# Altium footprint library Jellyfih.PcbLib: 27 footprints (part 1 of 2)
Each footprint in its own frame and in the unit in brackets; x right, y up, seen from the top. Pads: shape width x height; smd on the part's side, far side on the other; paste and mask are expansions set on the pad; w line width, h text height; cw(c..) or ccw(c..) is an arc to the next point about the centre after c.
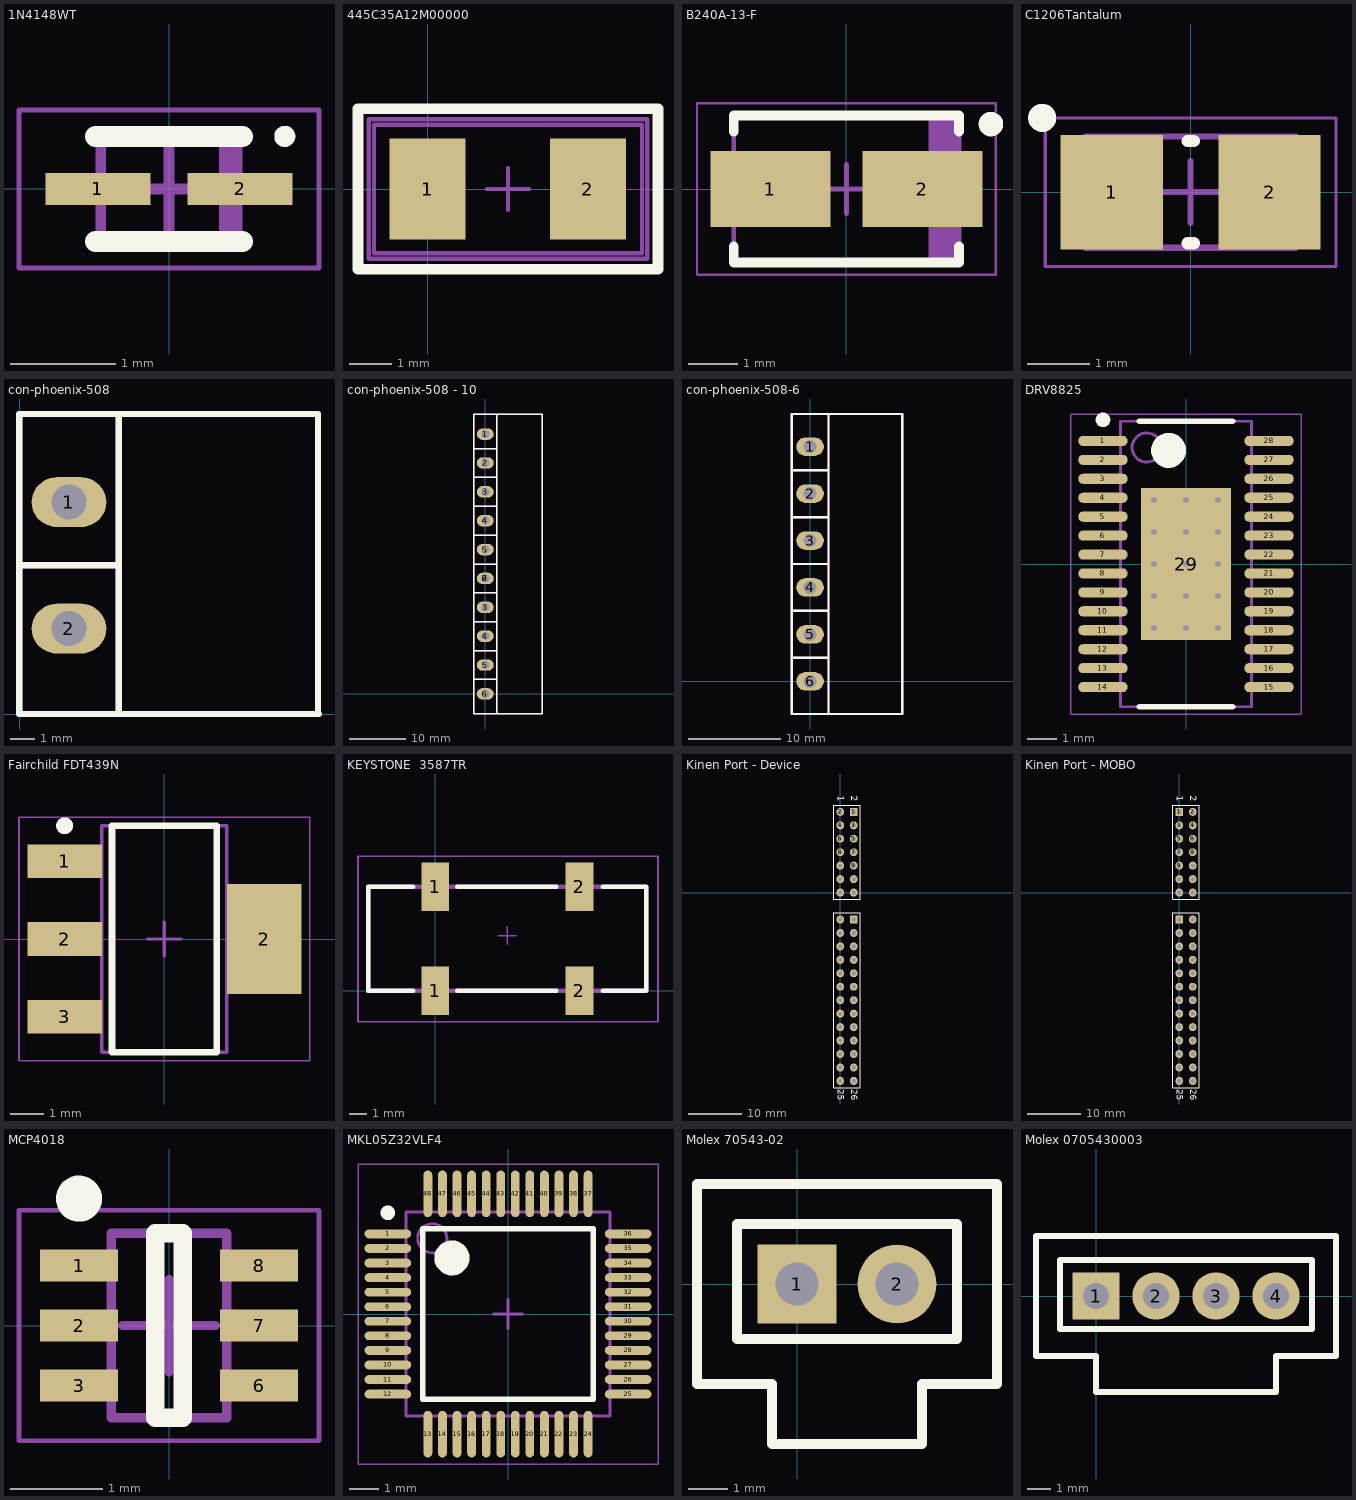
[diagram p0: the footprints below, top view; thin cyan lines are the x and y axes]

## 1N4148WT [mm] "Molded Diode, 2-Leads, Body 1.20x0.80mm, IPC Medium Density"
height 0.7
pads (2):
  rect 1x0.3 smd: 1(-0.675,0) 2(0.675,0)
Top Overlay:
  circle w0.1: c1.1,0.5 r0.05
  lines w0.2: -0.7,-0.5 0.7,-0.5 ; -0.7,0.5 0.7,0.5
Mechanical 13:
  rectangle: 0.475,-0.45 0.65,0.45
  lines w0.1: -0.65,-0.45 0.65,-0.45 0.65,0.45 -0.65,0.45 -0.65,-0.45
Mechanical 15:
  lines w0.05: -1.425,-0.75 1.425,-0.75 1.425,0.75 -1.425,0.75 -1.425,-0.75
  lines w0.1: -0.45,0 0.45,0 ; 0,-0.45 0,0.45
3D body: height 0.7, standoff 0, extent -0.65,-0.45 0.65,0.45

## 445C35A12M00000 [mm] "Crystal Oscillator"
height 1.35
pads (2):
  rect 1.8x2.4 smd: 1(0,0) 2(3.8,0)
Top Overlay:
  lines w0.254: -1.651,-1.905 5.461,-1.905 5.461,1.905 -1.651,1.905 -1.651,-1.905
Mechanical 13:
  lines w0.1: -1.27,-1.524 -1.27,1.524 5.08,1.524 5.08,-1.524 -1.27,-1.524
Mechanical 15:
  lines w0.1: 1.405,0 2.405,0 ; 1.905,-0.5 1.905,0.5 ; -1.397,-1.651 5.207,-1.651 5.207,1.651 -1.397,1.651 -1.397,-1.651
3D body: height 1, standoff 0, extent -1.27,-1.524 5.08,1.524

## B240A-13-F [mm] "Molded Diode, 2-Leads, Body 4.30x2.60mm, IPC Medium Density"
height 2.3
pads (2):
  rect 2.45x1.55 smd: 1(-1.55,0) 2(1.55,0)
Top Overlay:
  circle w0.25: c2.95,1.325 r0.125
  lines w0.2: -2.3,-1.175 -2.3,-1.5 2.3,-1.5 2.3,-1.175 ; -2.3,1.175 -2.3,1.5 2.3,1.5 2.3,1.175
Mechanical 13:
  rectangle: 1.681,-1.46 2.3,1.46
  lines w0.1: -2.3,-1.46 -2.3,1.46 2.3,1.46 2.3,-1.46 -2.3,-1.46
Mechanical 15:
  lines w0.05: -3.05,-1.75 -3.05,1.75 3.05,1.75 3.05,-1.75 -3.05,-1.75
  lines w0.1: -0.5,0 0.5,0 ; 0,-0.5 0,0.5
3D body: height 2.3, standoff 0, extent -2.3,-1.46 2.3,1.46

## C1206Tantalum [mm] "Chip Capacitor, 2-Leads, Body 3.20x1.60mm, IPC Medium Density"
height 1.8
pads (2):
  rect 1.65x1.85 smd: 1(-1.275,0) 2(1.275,0)
Top Overlay:
  circle w0.254: c-2.4,1.2 r0.1
  lines w0.2: -0.05,-0.825 0.05,-0.825 ; -0.05,0.825 0.05,0.825
Mechanical 13:
  lines w0.1: -1.7,-0.9 -1.7,0.9 1.7,0.9 1.7,-0.9 -1.7,-0.9
Mechanical 15:
  lines w0.05: -2.35,-1.2 -2.35,1.2 2.35,1.2 2.35,-1.2 -2.35,-1.2
  lines w0.1: -0.5,0 0.5,0 ; 0,-0.5 0,0.5
3D body: height 1.8, standoff 0, extent -0.85,-0.9 0.85,0.9
3D body: height 1.8, standoff 0, extent -1.7,-0.9 -0.85,0.9
3D body: height 1.8, standoff 0, extent 0.85,-0.9 1.7,0.9

## con-phoenix-508 [mm] "con-phoenix-508"
pads (2):
  oval 3x2 hole 1.4: 1(1.968,8.509) 2(1.968,3.429)
Top Overlay:
  lines w0.254: -0.032,0 -0.032,12.049 11.968,12.049 11.968,0 ; -0.032,5.969 3.968,5.969 3.968,0 ; 0,0 12.001,0 ; 3.968,5.842 3.968,12.017
Mechanical 1:
  lines w0.254: -0.032,0 -0.032,12.049 11.968,12.049 11.968,0 ; -0.032,5.969 3.968,5.969 3.968,0 ; 0,0 12.001,0 ; 3.968,5.842 3.968,12.017

## con-phoenix-508 - 10 [mm] "con-phoenix-508"
pads (11):
  oval 3x2 hole 1.4: 1(0,45.72) 2(0,20.32) 2(0,40.64) 3(0,15.24) 3(0,35.56) 4(0,10.16) 4(0,30.48) 5(0,5.08) 5(0,25.4) 6(0,0) 6(0,20.32)
Top Overlay:
  lines w0.254: -2,2.54 2,2.54 ; -2,7.62 2,7.62 ; -2,12.7 2,12.7 ; -2,17.78 2,17.78 ; -2,22.86 2,22.86 ; -2,27.94 2,27.94 ; -2,33.02 2,33.02 ; -2,38.1 2,38.1 ; -2,43.18 2,43.18 ; 2,-3.508 2,16.78 2,49.26 ; -2,-3.54 -2,16.78 -2,49.26 10,49.26 10,16.78 10,-3.54 -2,-3.54
Mechanical 1:
  lines w0.254: -2,2.54 2,2.54 ; -2,7.62 2,7.62 ; -2,12.7 2,12.7 ; -2,17.78 2,17.78 ; -2,27.94 2,27.94 ; -2,33.02 2,33.02 ; -2,38.1 2,38.1 ; -2,43.18 2,43.18 ; 2,-3.508 2,16.78 2,49.26 ; -2,-3.54 10,-3.54 10,16.78 10,49.26 -2,49.26 -2,16.78 -2,-3.54 ; -2,22.86 2,22.86 -2,22.86

## con-phoenix-508-6 [mm] "con-phoenix-508"
pads (6):
  oval 3x2 hole 1.4: 1(0,25.4) 2(0,20.32) 3(0,15.24) 4(0,10.16) 5(0,5.08) 6(0,0)
Top Overlay:
  lines w0.254: -2,2.54 2,2.54 ; -2,7.62 2,7.62 ; -2,12.7 2,12.7 ; -2,17.78 2,17.78 ; -2,22.86 2,22.86 ; 2,-3.54 2,28.94 ; -2,-3.54 10,-3.54 10,28.94 -2,28.94 -2,-3.54
Mechanical 1:
  lines w0.254: -2,2.54 2,2.54 ; -2,7.62 2,7.62 ; -2,12.7 2,12.7 ; -2,17.78 2,17.78 ; -2,22.86 2,22.86 ; 2,-3.54 2,28.94 ; -2,-3.54 -2,28.94 10,28.94 10,-3.54 -2,-3.54

## DRV8825 [mm] "TSOP, 28-Leads, Body 9.70x4.40mm, Pitch 0.65mm, Thermal Pad 5.22.2x3.10.2mm, IPC Medium Density"
height 1.2
pads (29):
  oval 1.7x0.35 smd: 1(-2.85,4.225) 2(-2.85,3.575) 3(-2.85,2.925) 4(-2.85,2.275) 5(-2.85,1.625) 6(-2.85,0.975) 7(-2.85,0.325) 8(-2.85,-0.325) 9(-2.85,-0.975) 10(-2.85,-1.625) 11(-2.85,-2.275) 12(-2.85,-2.925) 13(-2.85,-3.575) 14(-2.85,-4.225) 15(2.85,-4.225) 16(2.85,-3.575) 17(2.85,-2.925) 18(2.85,-2.275) 19(2.85,-1.625) 20(2.85,-0.975) 21(2.85,-0.325) 22(2.85,0.325) 23(2.85,0.975) 24(2.85,1.625) 25(2.85,2.275) 26(2.85,2.925) 27(2.85,3.575) 28(2.85,4.225)
  rect 3.1x5.22 smd: 29(0,0)
via 1.1,-2.2 diameter 0.5 hole 0.2
via 0,-2.2 diameter 0.5 hole 0.2
via -1.1,-2.2 diameter 0.5 hole 0.2
via 1.1,-1.1 diameter 0.5 hole 0.2
via 0,-1.1 diameter 0.5 hole 0.2
via -1.1,-1.1 diameter 0.5 hole 0.2
via 1.1,0 diameter 0.5 hole 0.2
via 0,0 diameter 0.5 hole 0.2
via -1.1,0 diameter 0.5 hole 0.2
via 1.1,1.1 diameter 0.5 hole 0.2
via 0,1.1 diameter 0.5 hole 0.2
via -1.1,1.1 diameter 0.5 hole 0.2
via 1.1,2.2 diameter 0.5 hole 0.2
via 0,2.2 diameter 0.5 hole 0.2
via -1.1,2.2 diameter 0.5 hole 0.2
Top Overlay:
  circle w0.6: c-0.6,3.9 r0.3
  circle w0.25: c-2.85,4.95 r0.125
  lines w0.2: -1.6,-4.9 1.6,-4.9 ; -1.6,4.9 1.6,4.9
Mechanical 13:
  circle w0.1: c-1.35,4 r0.5
  lines w0.1: -2.25,-4.9 2.25,-4.9 2.25,4.9 -2.25,4.9 -2.25,-4.9
Mechanical 15:
  lines w0.05: -3.95,-5.15 3.95,-5.15 3.95,5.15 -3.95,5.15 -3.95,-5.15
  lines w0.1: -0.5,0 0.5,0 ; 0,-0.5 0,0.5
3D body: height 1.2, standoff 0.1, extent -2.25,-4.9 2.25,4.9

## Fairchild FDT439N [mm] "SOT223, 4-Leads, Body 6.60x7.08mm (avg), Pitch 2.30mm, IPC Medium Density"
height 1.6
pads (4):
  rect 2.2x1 smd: 1(-2.95,2.3) 2(-2.95,0) 3(-2.95,-2.3)
  rect 2.2x3.25 smd: 2(2.95,0)
Top Overlay:
  circle w0.25: c-2.95,3.35 r0.125
  lines w0.2: -1.55,-3.35 1.55,-3.35 1.55,3.35 -1.55,3.35 -1.55,-3.35
Mechanical 13:
  lines w0.1: -1.85,-3.35 1.85,-3.35 1.85,3.35 -1.85,3.35 -1.85,-3.35
Mechanical 15:
  lines w0.05: -4.3,-3.6 4.3,-3.6 4.3,3.6 -4.3,3.6 -4.3,-3.6
  lines w0.1: -0.5,0 0.5,0 ; 0,-0.5 0,0.5
3D body: height 1.6, standoff 0.06, extent -1.85,-3.35 1.85,3.35

## KEYSTONE  3587TR [mm] "KEYSTONE  3587TR  Automotive FUse Holder"
pads (4):
  rect 1.6x2.8 smd: 1(0,0) 1(0,6) 2(8.3,0) 2(8.3,6)
Top Overlay:
  lines w0.254: -1.27,0 -3.85,0 -3.85,6 -1.27,6 ; 1.27,0 6.985,0 ; 1.27,6 6.985,6 ; 9.652,0 12.15,0 12.15,6 9.652,6
Mechanical 1:
  lines w0.254: -3.85,0 -3.85,6 12.15,6 12.15,0 -3.85,0
Mechanical 15:
  lines w0.1: 3.65,3.175 4.65,3.175 ; 4.15,2.675 4.15,3.675 ; -4.445,-1.778 -4.445,7.747 12.827,7.747 12.827,-1.778 -4.445,-1.778
3D body: height 7.4, standoff 0, extent -3.81,0 12.192,5.969

## Kinen Port - Device [mm] "Synthetos Kinen Expansion Port Socket"
pads (40):
  rect 1.5x1.5 hole 0.9: 1(2.54,15.24) 15(2.54,-5.08)
  round 1.5 hole 0.9: 2(0,15.24) 3(2.54,12.7) 4(0,12.7) 5(2.54,10.16) 6(0,10.16) 7(2.54,7.62) 8(0,7.62) 9(2.54,5.08) 10(0,5.08) 11(2.54,2.54) 12(0,2.54) 13(2.54,0) 14(0,0) 16(0,-5.08) 17(2.54,-7.62) 18(0,-7.62) 19(2.54,-10.16) 20(0,-10.16) 21(2.54,-12.7) 22(0,-12.7) 23(2.54,-15.24) 24(0,-15.24) 25(2.54,-17.78) 26(0,-17.78) 27(2.54,-20.32) 28(0,-20.32) 29(2.54,-22.86) 30(0,-22.86) 31(2.54,-25.4) 32(0,-25.4) 33(2.54,-27.94) 34(0,-27.94) 35(2.54,-30.48) 36(0,-30.48) 37(2.54,-33.02) 38(0,-33.02) 39(2.54,-35.56) 40(0,-35.56)
Top Overlay:
  lines w0.2: -1.27,-36.83 3.81,-36.83 3.81,-3.81 -1.27,-3.81 -1.27,-36.83 ; -1.27,-1.27 3.81,-1.27 3.81,16.51 -1.27,16.51 -1.27,-1.27
  text "25" at -0.508,-37.084 h1.27
  text "26" at 2.032,-37.084 h1.27
  text "2" at 2.032,18.288 h1.27
  text "1" at -0.508,18.288 h1.27

## Kinen Port - MOBO [mm] "Synthetos Kinen Expansion Port Socket"
pads (40):
  rect 1.5x1.5 hole 0.9: 1(0,15.24) 15(0,-5.08)
  round 1.5 hole 0.9: 2(2.54,15.24) 3(0,12.7) 4(2.54,12.7) 5(0,10.16) 6(2.54,10.16) 7(0,7.62) 8(2.54,7.62) 9(0,5.08) 10(2.54,5.08) 11(0,2.54) 12(2.54,2.54) 13(0,0) 14(2.54,0) 16(2.54,-5.08) 17(0,-7.62) 18(2.54,-7.62) 19(0,-10.16) 20(2.54,-10.16) 21(0,-12.7) 22(2.54,-12.7) 23(0,-15.24) 24(2.54,-15.24) 25(0,-17.78) 26(2.54,-17.78) 27(0,-20.32) 28(2.54,-20.32) 29(0,-22.86) 30(2.54,-22.86) 31(0,-25.4) 32(2.54,-25.4) 33(0,-27.94) 34(2.54,-27.94) 35(0,-30.48) 36(2.54,-30.48) 37(0,-33.02) 38(2.54,-33.02) 39(0,-35.56) 40(2.54,-35.56)
Top Overlay:
  lines w0.2: -1.27,-36.83 3.81,-36.83 3.81,-3.81 -1.27,-3.81 -1.27,-36.83 ; -1.27,-1.27 3.81,-1.27 3.81,16.51 -1.27,16.51 -1.27,-1.27
  text "25" at -0.508,-37.084 h1.27
  text "26" at 2.032,-37.084 h1.27
  text "2" at 2.032,18.288 h1.27
  text "1" at -0.508,18.288 h1.27

## MCP4018 [mm] "SOT23, 6-Leads, Body 1.93x2.10mm, Pitch 0.65mm, IPC Medium Density"
height 1.1
pads (6):
  rect 0.85x0.35 smd: 1(-0.975,0.65) 2(-0.975,0) 3(-0.975,-0.65) 6(0.975,-0.65) 7(0.975,0) 8(0.975,0.65)
Top Overlay:
  circle w0.25: c-0.975,1.375 r0.125
  lines w0.2: -0.15,-1 -0.15,1 0.15,1 0.15,-1 -0.15,-1
Mechanical 13:
  lines w0.1: -0.625,-1 0.625,-1 0.625,1 -0.625,1 -0.625,-1
Mechanical 15:
  lines w0.05: -1.625,-1.25 1.625,-1.25 1.625,1.25 -1.625,1.25 -1.625,-1.25
  lines w0.1: -0.5,0 0.5,0 ; 0,-0.5 0,0.5
3D body: height 1.1, standoff 0, extent -0.625,-1 0.625,1

## MKL05Z32VLF4 [mm] "TSQFP, 48-Leads, Body 7.00x7.00mm, Pitch 0.50mm, IPC Medium Density"
height 1.6
pads (48):
  oval 1.6x0.3 smd: 1(-4.125,2.75) 2(-4.125,2.25) 3(-4.125,1.75) 4(-4.125,1.25) 5(-4.125,0.75) 6(-4.125,0.25) 7(-4.125,-0.25) 8(-4.125,-0.75) 9(-4.125,-1.25) 10(-4.125,-1.75) 11(-4.125,-2.25) 12(-4.125,-2.75) 25(4.125,-2.75) 26(4.125,-2.25) 27(4.125,-1.75) 28(4.125,-1.25) 29(4.125,-0.75) 30(4.125,-0.25) 31(4.125,0.25) 32(4.125,0.75) 33(4.125,1.25) 34(4.125,1.75) 35(4.125,2.25) 36(4.125,2.75)
  oval 0.3x1.6 smd: 13(-2.75,-4.125) 14(-2.25,-4.125) 15(-1.75,-4.125) 16(-1.25,-4.125) 17(-0.75,-4.125) 18(-0.25,-4.125) 19(0.25,-4.125) 20(0.75,-4.125) 21(1.25,-4.125) 22(1.75,-4.125) 23(2.25,-4.125) 24(2.75,-4.125) 37(2.75,4.125) 38(2.25,4.125) 39(1.75,4.125) 40(1.25,4.125) 41(0.75,4.125) 42(0.25,4.125) 43(-0.25,4.125) 44(-0.75,4.125) 45(-1.25,4.125) 46(-1.75,4.125) 47(-2.25,4.125) 48(-2.75,4.125)
Top Overlay:
  circle w0.25: c-4.125,3.475 r0.125
  circle w0.6: c-1.925,1.925 r0.3
  lines w0.2: -2.925,-2.925 -2.925,2.925 2.925,2.925 2.925,-2.925 -2.925,-2.925
Mechanical 13:
  circle w0.1: c-2.6,2.6 r0.5
  lines w0.1: -3.5,-3.5 -3.5,3.5 3.5,3.5 3.5,-3.5 -3.5,-3.5
Mechanical 15:
  lines w0.05: -5.15,-5.15 -5.15,5.15 5.15,5.15 5.15,-5.15 -5.15,-5.15
  lines w0.1: -0.5,0 0.5,0 ; 0,-0.5 0,0.5
3D body: height 1.6, standoff 0.05, extent -3.5,-3.5 3.5,3.5

## Molex 70543-02 [mm]
pads (2):
  rect 2x2 hole 1.09: 1(0,0)
  round 2 hole 1.09: 2(2.54,0)
Top Overlay:
  lines w0.254: -2.54,-2.54 -2.54,2.54 5.08,2.54 5.08,-2.54 3.175,-2.54 3.175,-4.064 -0.635,-4.064 -0.635,-2.54 -2.54,-2.54 ; -1.524,-1.397 -1.524,-1.27 -1.524,1.524 4.064,1.524 4.064,-1.397 -1.397,-1.397 -1.524,-1.397

## Molex 0705430003 [mm] "4 pin connector"
pads (4):
  rect 2x2 hole 1.09: 1(0,0)
  round 2 hole 1.09: 2(2.54,0) 3(5.08,0) 4(7.62,0)
Top Overlay:
  lines w0.254: -2.54,-2.54 0,-2.54 0,-4.064 7.62,-4.064 7.62,-2.54 10.16,-2.54 10.16,2.54 -2.54,2.54 -2.54,-2.54 ; -1.524,-1.397 -1.397,-1.397 9.144,-1.397 9.144,1.524 -1.524,1.524 -1.524,-1.27 -1.524,-1.397